# Altium schematic symbol library rcl.SCHLIB: 895 symbols (part 3 of 3)
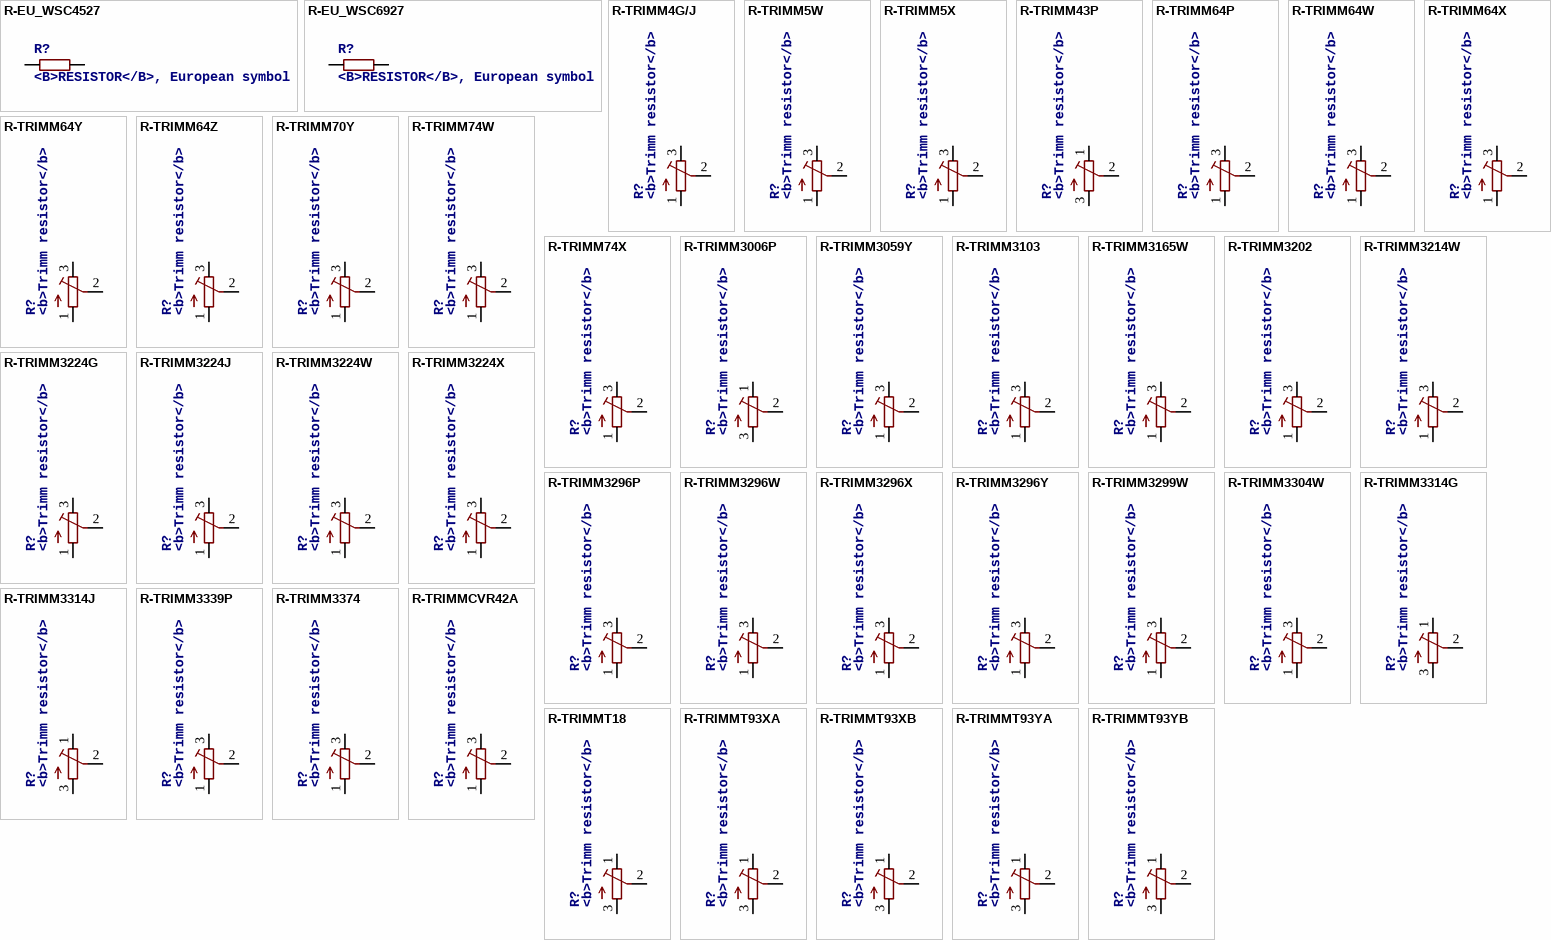
[diagram p25: symbols R-EU_WSC4527 to R-TRIMMT93YB]

## R-TRIMM3224X
designator R?, comment <b>Trimm resistor</b>
SPICEMODEL: X; SPICEPREFIXL: POT
footprint RTRIM3224X
pins: 1 A, 2 S, 3 E

## R-TRIMM3296P
designator R?, comment <b>Trimm resistor</b>
SPICEMODEL: X; SPICEPREFIXL: POT
footprint RTRIM3296P
pins: 1 A, 2 S, 3 E

## R-TRIMM3296W
designator R?, comment <b>Trimm resistor</b>
SPICEMODEL: X; SPICEPREFIXL: POT
footprint RTRIM3296W
pins: 1 A, 2 S, 3 E

## R-TRIMM3296X
designator R?, comment <b>Trimm resistor</b>
SPICEMODEL: X; SPICEPREFIXL: POT
footprint RTRIM3296X
pins: 1 A, 2 S, 3 E

## R-TRIMM3296Y
designator R?, comment <b>Trimm resistor</b>
SPICEMODEL: X; SPICEPREFIXL: POT
footprint RTRIM3296Y
pins: 1 A, 2 S, 3 E

## R-TRIMM3299W
designator R?, comment <b>Trimm resistor</b>
SPICEMODEL: X; SPICEPREFIXL: POT
footprint RTRIM3299W
pins: 1 A, 2 S, 3 E

## R-TRIMM3304W
designator R?, comment <b>Trimm resistor</b>
SPICEMODEL: X; SPICEPREFIXL: POT
footprint RTRIM3304W
pins: 1 A, 2 S, 3 E

## R-TRIMM3314G
designator R?, comment <b>Trimm resistor</b>
SPICEMODEL: X; SPICEPREFIXL: POT
footprint RTRIM3314G
pins: 1 E, 2 S, 3 A

## R-TRIMM3314J
designator R?, comment <b>Trimm resistor</b>
SPICEMODEL: X; SPICEPREFIXL: POT
footprint RTRIM3314J
pins: 1 E, 2 S, 3 A

## R-TRIMM3339P
designator R?, comment <b>Trimm resistor</b>
SPICEMODEL: X; SPICEPREFIXL: POT
footprint RTRIM3339P
pins: 1 A, 2 S, 3 E

## R-TRIMM3374
designator R?, comment <b>Trimm resistor</b>
SPICEMODEL: X; SPICEPREFIXL: POT
footprint RTRIM3374
pins: 1 A, 2 S, 3 E

## R-TRIMMCVR42A
designator R?, comment <b>Trimm resistor</b>
SPICEMODEL: X; SPICEPREFIXL: POT
footprint RTRIMCVR42A
pins: 1 A, 2 S, 3 E

## R-TRIMMT18
designator R?, comment <b>Trimm resistor</b>
SPICEMODEL: X; SPICEPREFIXL: POT
footprint RTRIMT18
pins: 1 E, 2 S, 3 A

## R-TRIMMT93XA
designator R?, comment <b>Trimm resistor</b>
SPICEMODEL: X; SPICEPREFIXL: POT
footprint RTRIMT93XA
pins: 1 E, 2 S, 3 A

## R-TRIMMT93XB
designator R?, comment <b>Trimm resistor</b>
SPICEMODEL: X; SPICEPREFIXL: POT
footprint RTRIMT93XB
pins: 1 E, 2 S, 3 A

## R-TRIMMT93YA
designator R?, comment <b>Trimm resistor</b>
SPICEMODEL: X; SPICEPREFIXL: POT
footprint RTRIMT93YA
pins: 1 E, 2 S, 3 A

## R-TRIMMT93YB
designator R?, comment <b>Trimm resistor</b>
SPICEMODEL: X; SPICEPREFIXL: POT
footprint RTRIMT93YB
pins: 1 E, 2 S, 3 A

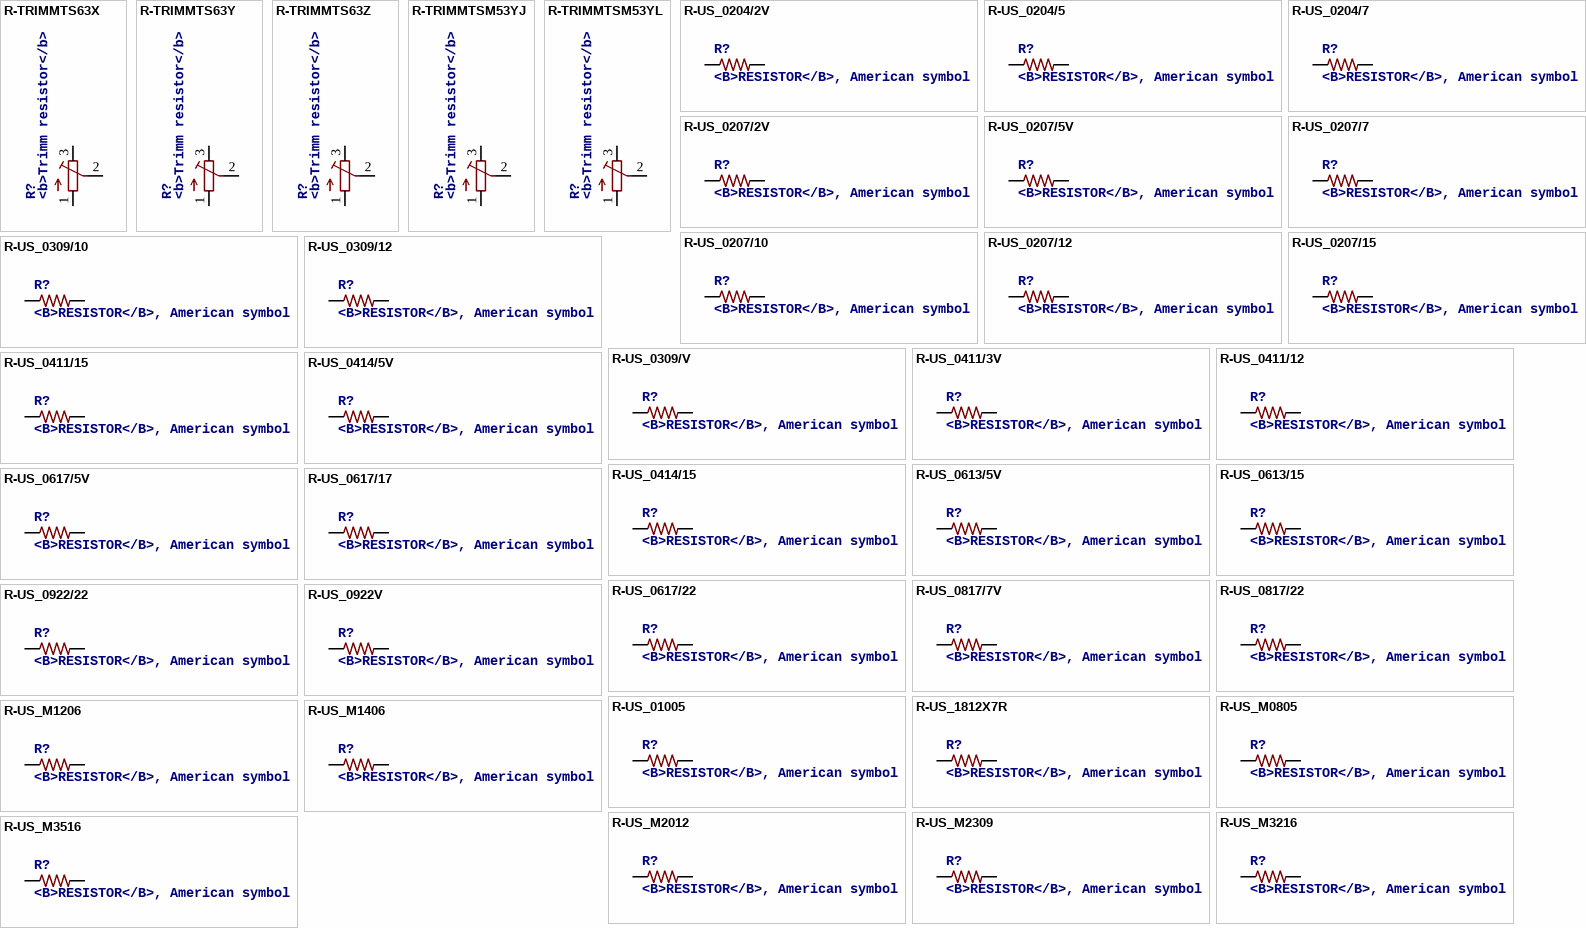
[diagram p21: symbols R-TRIMMTS63X to R-US_M3516]

## R-TRIMMTS63X
designator R?, comment <b>Trimm resistor</b>
SPICEMODEL: X; SPICEPREFIXL: POT
footprint RTRIMTS63X
pins: 1 A, 2 S, 3 E

## R-TRIMMTS63Y
designator R?, comment <b>Trimm resistor</b>
SPICEMODEL: X; SPICEPREFIXL: POT
footprint RTRIMTS63Y
pins: 1 A, 2 S, 3 E

## R-TRIMMTS63Z
designator R?, comment <b>Trimm resistor</b>
SPICEMODEL: X; SPICEPREFIXL: POT
footprint RTRIMTS63Z
pins: 1 A, 2 S, 3 E

## R-TRIMMTSM53YJ
designator R?, comment <b>Trimm resistor</b>
SPICEMODEL: X; SPICEPREFIXL: POT
footprint RTRIMTSM53YJ
pins: 1 A, 2 S, 3 E

## R-TRIMMTSM53YL
designator R?, comment <b>Trimm resistor</b>
SPICEMODEL: X; SPICEPREFIXL: POT
footprint RTRIMTSM53YL
pins: 1 A, 2 S, 3 E

## R-US_0204/2V
designator R?, comment <B>RESISTOR</B>, American symbol
SPICEPREFIX: R
footprint 0204V
pins: 1, 2

## R-US_0204/5
designator R?, comment <B>RESISTOR</B>, American symbol
SPICEPREFIX: R
footprint 0204/5
pins: 1, 2

## R-US_0204/7
designator R?, comment <B>RESISTOR</B>, American symbol
SPICEPREFIX: R
footprint 0204/7
pins: 1, 2

## R-US_0207/2V
designator R?, comment <B>RESISTOR</B>, American symbol
SPICEPREFIX: R
footprint 0207/2V
pins: 1, 2

## R-US_0207/5V
designator R?, comment <B>RESISTOR</B>, American symbol
SPICEPREFIX: R
footprint 0207/5V
pins: 1, 2

## R-US_0207/7
designator R?, comment <B>RESISTOR</B>, American symbol
SPICEPREFIX: R
footprint 0207/7
pins: 1, 2

## R-US_0207/10
designator R?, comment <B>RESISTOR</B>, American symbol
SPICEPREFIX: R
footprint 0207/10
pins: 1, 2

## R-US_0207/12
designator R?, comment <B>RESISTOR</B>, American symbol
SPICEPREFIX: R
footprint 0207/12
pins: 1, 2

## R-US_0207/15
designator R?, comment <B>RESISTOR</B>, American symbol
SPICEPREFIX: R
footprint 0207/15
pins: 1, 2

## R-US_0309/10
designator R?, comment <B>RESISTOR</B>, American symbol
SPICEPREFIX: R
footprint 0309/10
pins: 1, 2

## R-US_0309/12
designator R?, comment <B>RESISTOR</B>, American symbol
SPICEPREFIX: R
footprint 0309/12
pins: 1, 2

## R-US_0309/V
designator R?, comment <B>RESISTOR</B>, American symbol
SPICEPREFIX: R
footprint 0309V
pins: 1, 2

## R-US_0411/3V
designator R?, comment <B>RESISTOR</B>, American symbol
SPICEPREFIX: R
footprint 0411V
pins: 1, 2

## R-US_0411/12
designator R?, comment <B>RESISTOR</B>, American symbol
SPICEPREFIX: R
footprint 0411/12
pins: 1, 2

## R-US_0411/15
designator R?, comment <B>RESISTOR</B>, American symbol
SPICEPREFIX: R
footprint 0411/15
pins: 1, 2

## R-US_0414/5V
designator R?, comment <B>RESISTOR</B>, American symbol
SPICEPREFIX: R
footprint 0414V
pins: 1, 2

## R-US_0414/15
designator R?, comment <B>RESISTOR</B>, American symbol
SPICEPREFIX: R
footprint 0414/15
pins: 1, 2

## R-US_0613/5V
designator R?, comment <B>RESISTOR</B>, American symbol
SPICEPREFIX: R
footprint P0613V
pins: 1, 2

## R-US_0613/15
designator R?, comment <B>RESISTOR</B>, American symbol
SPICEPREFIX: R
footprint P0613/15
pins: 1, 2

## R-US_0617/5V
designator R?, comment <B>RESISTOR</B>, American symbol
SPICEPREFIX: R
footprint 0617V
pins: 1, 2

## R-US_0617/17
designator R?, comment <B>RESISTOR</B>, American symbol
SPICEPREFIX: R
footprint 0617/17
pins: 1, 2

## R-US_0617/22
designator R?, comment <B>RESISTOR</B>, American symbol
SPICEPREFIX: R
footprint 0617/22
pins: 1, 2

## R-US_0817/7V
designator R?, comment <B>RESISTOR</B>, American symbol
SPICEPREFIX: R
footprint P0817V
pins: 1, 2

## R-US_0817/22
designator R?, comment <B>RESISTOR</B>, American symbol
SPICEPREFIX: R
footprint P0817/22
pins: 1, 2

## R-US_0922/22
designator R?, comment <B>RESISTOR</B>, American symbol
SPICEPREFIX: R
footprint 0922/22
pins: 1, 2

## R-US_0922V
designator R?, comment <B>RESISTOR</B>, American symbol
SPICEPREFIX: R
footprint 0922V
pins: 1, 2

## R-US_01005
designator R?, comment <B>RESISTOR</B>, American symbol
SPICEPREFIX: R
footprint R01005
pins: 1, 2

## R-US_1812X7R
designator R?, comment <B>RESISTOR</B>, American symbol
SPICEPREFIX: R
footprint 1812X7R
pins: 1, 2

## R-US_M0805
designator R?, comment <B>RESISTOR</B>, American symbol
SPICEPREFIX: R
footprint M0805
pins: 1, 2

## R-US_M1206
designator R?, comment <B>RESISTOR</B>, American symbol
SPICEPREFIX: R
footprint M1206
pins: 1, 2

## R-US_M1406
designator R?, comment <B>RESISTOR</B>, American symbol
SPICEPREFIX: R
footprint M1406
pins: 1, 2

## R-US_M2012
designator R?, comment <B>RESISTOR</B>, American symbol
SPICEPREFIX: R
footprint M2012
pins: 1, 2

## R-US_M2309
designator R?, comment <B>RESISTOR</B>, American symbol
SPICEPREFIX: R
footprint M2309
pins: 1, 2

## R-US_M3216
designator R?, comment <B>RESISTOR</B>, American symbol
SPICEPREFIX: R
footprint M3216
pins: 1, 2

## R-US_M3516
designator R?, comment <B>RESISTOR</B>, American symbol
SPICEPREFIX: R
footprint M3516
pins: 1, 2

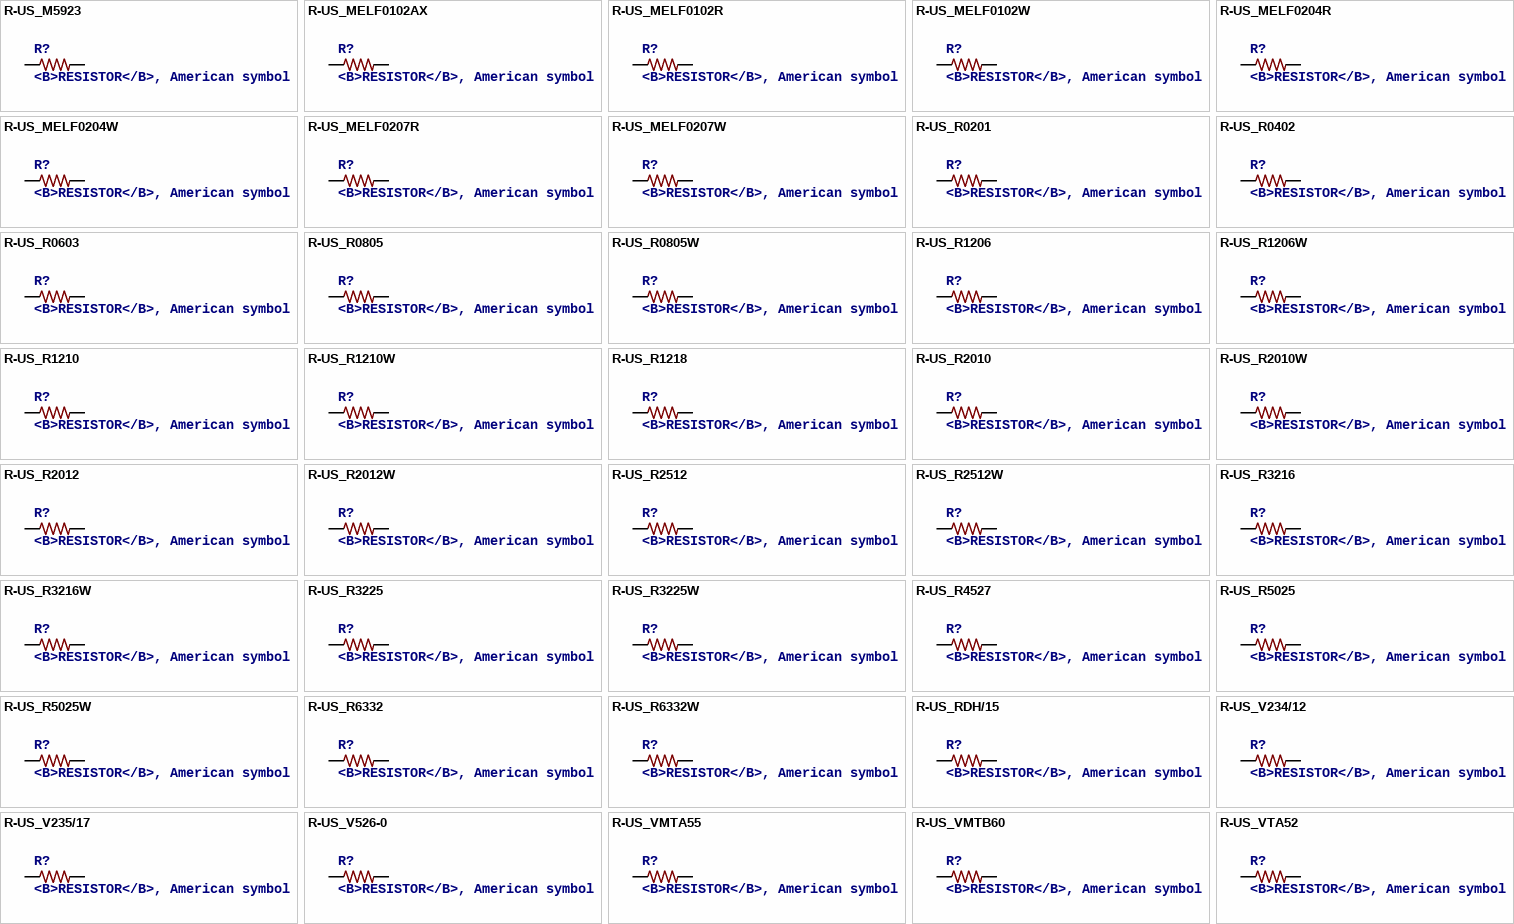
[diagram p22: symbols R-US_M5923 to R-US_VTA52]

## R-US_M5923
designator R?, comment <B>RESISTOR</B>, American symbol
SPICEPREFIX: R
footprint M5923
pins: 1, 2

## R-US_MELF0102AX
designator R?, comment <B>RESISTOR</B>, American symbol
SPICEPREFIX: R
footprint MINI_MELF-0102AX
pins: 1, 2

## R-US_MELF0102R
designator R?, comment <B>RESISTOR</B>, American symbol
SPICEPREFIX: R
footprint MINI_MELF-0102R
pins: 1, 2

## R-US_MELF0102W
designator R?, comment <B>RESISTOR</B>, American symbol
SPICEPREFIX: R
footprint MINI_MELF-0102W
pins: 1, 2

## R-US_MELF0204R
designator R?, comment <B>RESISTOR</B>, American symbol
SPICEPREFIX: R
footprint MINI_MELF-0204R
pins: 1, 2

## R-US_MELF0204W
designator R?, comment <B>RESISTOR</B>, American symbol
SPICEPREFIX: R
footprint MINI_MELF-0204W
pins: 1, 2

## R-US_MELF0207R
designator R?, comment <B>RESISTOR</B>, American symbol
SPICEPREFIX: R
footprint MINI_MELF-0207R
pins: 1, 2

## R-US_MELF0207W
designator R?, comment <B>RESISTOR</B>, American symbol
SPICEPREFIX: R
footprint MINI_MELF-0207W
pins: 1, 2

## R-US_R0201
designator R?, comment <B>RESISTOR</B>, American symbol
SPICEPREFIX: R
footprint R0201
pins: 1, 2

## R-US_R0402
designator R?, comment <B>RESISTOR</B>, American symbol
SPICEPREFIX: R
footprint R0402
pins: 1, 2

## R-US_R0603
designator R?, comment <B>RESISTOR</B>, American symbol
SPICEPREFIX: R
footprint R0603
pins: 1, 2

## R-US_R0805
designator R?, comment <B>RESISTOR</B>, American symbol
SPICEPREFIX: R
footprint R0805
pins: 1, 2

## R-US_R0805W
designator R?, comment <B>RESISTOR</B>, American symbol
SPICEPREFIX: R
footprint R0805W
pins: 1, 2

## R-US_R1206
designator R?, comment <B>RESISTOR</B>, American symbol
SPICEPREFIX: R
footprint R1206
pins: 1, 2

## R-US_R1206W
designator R?, comment <B>RESISTOR</B>, American symbol
SPICEPREFIX: R
footprint R1206W
pins: 1, 2

## R-US_R1210
designator R?, comment <B>RESISTOR</B>, American symbol
SPICEPREFIX: R
footprint R1210
pins: 1, 2

## R-US_R1210W
designator R?, comment <B>RESISTOR</B>, American symbol
SPICEPREFIX: R
footprint R1210W
pins: 1, 2

## R-US_R1218
designator R?, comment <B>RESISTOR</B>, American symbol
SPICEPREFIX: R
footprint R1218
pins: 1, 2

## R-US_R2010
designator R?, comment <B>RESISTOR</B>, American symbol
SPICEPREFIX: R
footprint R2010
pins: 1, 2

## R-US_R2010W
designator R?, comment <B>RESISTOR</B>, American symbol
SPICEPREFIX: R
footprint R2010W
pins: 1, 2

## R-US_R2012
designator R?, comment <B>RESISTOR</B>, American symbol
SPICEPREFIX: R
footprint R2012
pins: 1, 2

## R-US_R2012W
designator R?, comment <B>RESISTOR</B>, American symbol
SPICEPREFIX: R
footprint R2012W
pins: 1, 2

## R-US_R2512
designator R?, comment <B>RESISTOR</B>, American symbol
SPICEPREFIX: R
footprint R2512
pins: 1, 2

## R-US_R2512W
designator R?, comment <B>RESISTOR</B>, American symbol
SPICEPREFIX: R
footprint R2512W
pins: 1, 2

## R-US_R3216
designator R?, comment <B>RESISTOR</B>, American symbol
SPICEPREFIX: R
footprint R3216
pins: 1, 2

## R-US_R3216W
designator R?, comment <B>RESISTOR</B>, American symbol
SPICEPREFIX: R
footprint R3216W
pins: 1, 2

## R-US_R3225
designator R?, comment <B>RESISTOR</B>, American symbol
SPICEPREFIX: R
footprint R3225
pins: 1, 2

## R-US_R3225W
designator R?, comment <B>RESISTOR</B>, American symbol
SPICEPREFIX: R
footprint R3225W
pins: 1, 2

## R-US_R4527
designator R?, comment <B>RESISTOR</B>, American symbol
SPICEPREFIX: R
footprint R4527
pins: 1, 2

## R-US_R5025
designator R?, comment <B>RESISTOR</B>, American symbol
SPICEPREFIX: R
footprint R5025
pins: 1, 2

## R-US_R5025W
designator R?, comment <B>RESISTOR</B>, American symbol
SPICEPREFIX: R
footprint R5025W
pins: 1, 2

## R-US_R6332
designator R?, comment <B>RESISTOR</B>, American symbol
SPICEPREFIX: R
footprint R6332
pins: 1, 2

## R-US_R6332W
designator R?, comment <B>RESISTOR</B>, American symbol
SPICEPREFIX: R
footprint R6332W
pins: 1, 2

## R-US_RDH/15
designator R?, comment <B>RESISTOR</B>, American symbol
SPICEPREFIX: R
footprint RDH/15
pins: 1, 2

## R-US_V234/12
designator R?, comment <B>RESISTOR</B>, American symbol
SPICEPREFIX: R
footprint V234/12
pins: 1, 2

## R-US_V235/17
designator R?, comment <B>RESISTOR</B>, American symbol
SPICEPREFIX: R
footprint V235/17
pins: 1, 2

## R-US_V526-0
designator R?, comment <B>RESISTOR</B>, American symbol
SPICEPREFIX: R
footprint V526-0
pins: 1, 2

## R-US_VMTA55
designator R?, comment <B>RESISTOR</B>, American symbol
SPICEPREFIX: R
footprint VMTA55
pins: 1, 2

## R-US_VMTB60
designator R?, comment <B>RESISTOR</B>, American symbol
SPICEPREFIX: R
footprint VMTB60
pins: 1, 2

## R-US_VTA52
designator R?, comment <B>RESISTOR</B>, American symbol
SPICEPREFIX: R
footprint VTA52
pins: 1, 2

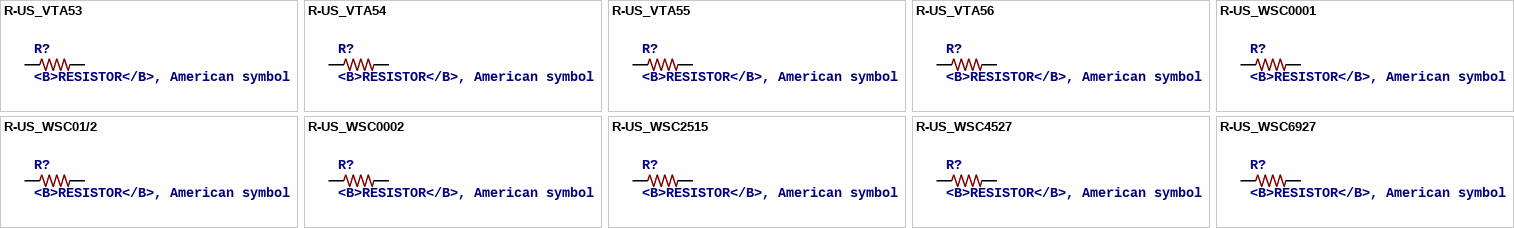
[diagram p23: symbols R-US_VTA53 to R-US_WSC6927]

## R-US_VTA53
designator R?, comment <B>RESISTOR</B>, American symbol
SPICEPREFIX: R
footprint VTA53
pins: 1, 2

## R-US_VTA54
designator R?, comment <B>RESISTOR</B>, American symbol
SPICEPREFIX: R
footprint VTA54
pins: 1, 2

## R-US_VTA55
designator R?, comment <B>RESISTOR</B>, American symbol
SPICEPREFIX: R
footprint VTA55
pins: 1, 2

## R-US_VTA56
designator R?, comment <B>RESISTOR</B>, American symbol
SPICEPREFIX: R
footprint VTA56
pins: 1, 2

## R-US_WSC0001
designator R?, comment <B>RESISTOR</B>, American symbol
SPICEPREFIX: R
footprint WSC0001
pins: 1, 2

## R-US_WSC01/2
designator R?, comment <B>RESISTOR</B>, American symbol
SPICEPREFIX: R
footprint WSC01/2
pins: 1, 2

## R-US_WSC0002
designator R?, comment <B>RESISTOR</B>, American symbol
SPICEPREFIX: R
footprint WSC0002
pins: 1, 2

## R-US_WSC2515
designator R?, comment <B>RESISTOR</B>, American symbol
SPICEPREFIX: R
footprint WSC2515
pins: 1, 2

## R-US_WSC4527
designator R?, comment <B>RESISTOR</B>, American symbol
SPICEPREFIX: R
footprint WSC4527
pins: 1, 2

## R-US_WSC6927
designator R?, comment <B>RESISTOR</B>, American symbol
SPICEPREFIX: R
footprint WSC6927
pins: 1, 2